# Altium footprint library PIC32MX470-F512H-120MR.PcbLib: 3 footprints
Each footprint in its own frame and in the unit in brackets; x right, y up, seen from the top. Pads: shape width x height; smd on the part's side, far side on the other; paste and mask are expansions set on the pad; w line width, h text height; cw(c..) or ccw(c..) is an arc to the next point about the centre after c.
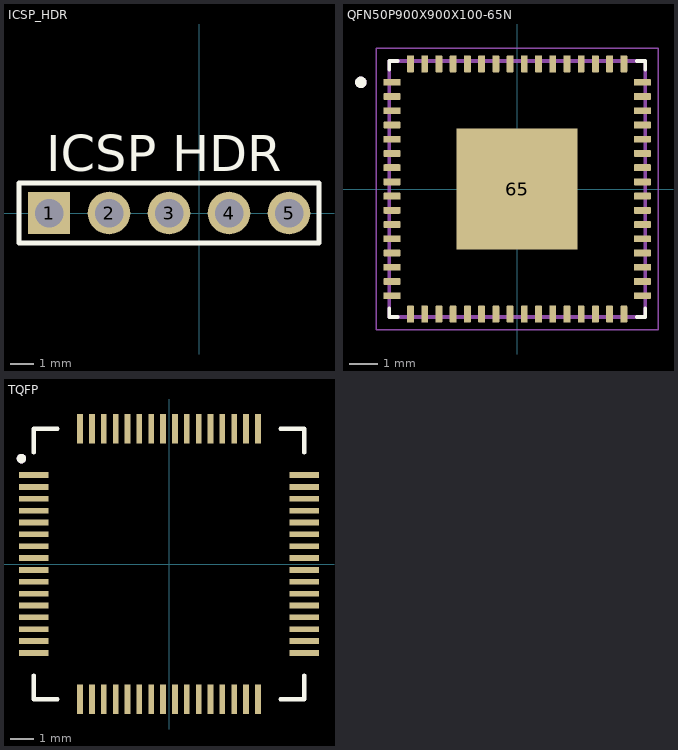
[diagram p0: the footprints below, top view; thin cyan lines are the x and y axes]

## ICSP_HDR [mil]
pads (5):
  rect 70x70 hole 47.5: 1(-250,0)
  round 71 hole 47.5: 2(-150,0) 3(-50,0) 4(50,0) 5(150,0)
Top Overlay:
  lines w8: -300,-50 200,-50 200,50 -300,50 -300,-50
  text "ICSP HDR" at -255,70 h60

## QFN50P900X900X100-65N [mm]
pads (65):
  rrect25% 0.6x0.24 smd: 1(-4.4,3.75) 2(-4.4,3.25) 3(-4.4,2.75) 4(-4.4,2.25) 5(-4.4,1.75) 6(-4.4,1.25) 7(-4.4,0.75) 8(-4.4,0.25) 9(-4.4,-0.25) 10(-4.4,-0.75) 11(-4.4,-1.25) 12(-4.4,-1.75) 13(-4.4,-2.25) 14(-4.4,-2.75) 15(-4.4,-3.25) 16(-4.4,-3.75) 33(4.4,-3.75) 34(4.4,-3.25) 35(4.4,-2.75) 36(4.4,-2.25) 37(4.4,-1.75) 38(4.4,-1.25) 39(4.4,-0.75) 40(4.4,-0.25) 41(4.4,0.25) 42(4.4,0.75) 43(4.4,1.25) 44(4.4,1.75) 45(4.4,2.25) 47(4.4,3.25) 48(4.4,3.75)
  rrect25% 0.24x0.6 smd: 17(-3.75,-4.4) 18(-3.25,-4.4) 19(-2.75,-4.4) 20(-2.25,-4.4) 21(-1.75,-4.4) 22(-1.25,-4.4) 23(-0.75,-4.4) 24(-0.25,-4.4) 25(0.25,-4.4) 26(0.75,-4.4) 27(1.25,-4.4) 28(1.75,-4.4) 29(2.25,-4.4) 30(2.75,-4.4) 31(3.25,-4.4) 32(3.75,-4.4) 49(3.75,4.4) 50(3.25,4.4) 51(2.75,4.4) 52(2.25,4.4) 53(1.75,4.4) 54(1.25,4.4) 55(0.75,4.4) 56(0.25,4.4) 57(-0.25,4.4) 58(-0.75,4.4) 59(-1.25,4.4) 60(-1.75,4.4) 61(-2.25,4.4) 62(-2.75,4.4) 63(-3.25,4.4) 64(-3.75,4.4)
  rrect25% 0.6x0.24 smd mask+0.102: 46(4.4,2.75)
  rect 4.25x4.25 smd paste-1.53: 65(0,0)
Top Overlay:
  circle w0.2: c-5.495,3.75 r0.1
  lines w0.127: -4.5,-4.2 -4.5,-4.5 -4.2,-4.5 ; -4.5,4.2 -4.5,4.5 -4.2,4.5 ; 4.2,-4.5 4.5,-4.5 4.5,-4.2 ; 4.2,4.5 4.5,4.5 4.5,4.2
Top Paste:
  region: 1.985,-1.985 0.795,-1.985 0.795,-0.795 1.985,-0.795
  region: 0.595,-1.985 -0.595,-1.985 -0.595,-0.795 0.595,-0.795
  region: -0.795,-1.985 -1.985,-1.985 -1.985,-0.795 -0.795,-0.795
  region: 1.985,0.795 0.795,0.795 0.795,1.985 1.985,1.985
  region: 0.595,0.795 -0.595,0.795 -0.595,1.985 0.595,1.985
  region: -0.795,0.795 -1.985,0.795 -1.985,1.985 -0.795,1.985
  region: 1.985,-0.595 0.795,-0.595 0.795,0.595 1.985,0.595
  region: -0.795,-0.595 -1.985,-0.595 -1.985,0.595 -0.795,0.595
Mechanical 13:
  circle w0.2: c-5.495,3.75 r0.1
  lines w0.127: -4.5,-4.5 -4.5,4.5 4.5,4.5 4.5,-4.5 -4.5,-4.5
Mechanical 15:
  lines w0.05: -4.95,-4.95 -4.95,4.95 4.95,4.95 4.95,-4.95 -4.95,-4.95
3D body "step_temp.STEP": height 1, standoff 0, extent -4.5,-4.5 4.5,4.5

## TQFP [mm]
pads (64):
  rect 1.25x0.24 smd: 1(-5.7,3.75) 2(-5.7,3.25) 3(-5.7,2.75) 4(-5.7,2.25) 5(-5.7,1.75) 6(-5.7,1.25) 7(-5.7,0.75) 8(-5.7,0.25) 9(-5.7,-0.25) 10(-5.7,-0.75) 11(-5.7,-1.25) 12(-5.7,-1.75) 13(-5.7,-2.25) 14(-5.7,-2.75) 15(-5.7,-3.25) 16(-5.7,-3.75) 33(5.7,-3.75) 34(5.7,-3.25) 35(5.7,-2.75) 36(5.7,-2.25) 37(5.7,-1.75) 38(5.7,-1.25) 39(5.7,-0.75) 40(5.7,-0.25) 41(5.7,0.25) 42(5.7,0.75) 43(5.7,1.25) 44(5.7,1.75) 45(5.7,2.25) 47(5.7,3.25) 48(5.7,3.75)
  rect 0.24x1.25 smd: 17(-3.75,-5.7) 18(-3.25,-5.7) 19(-2.75,-5.7) 20(-2.25,-5.7) 21(-1.75,-5.7) 22(-1.25,-5.7) 23(-0.75,-5.7) 24(-0.25,-5.7) 25(0.25,-5.7) 26(0.75,-5.7) 27(1.25,-5.7) 28(1.75,-5.7) 29(2.25,-5.7) 30(2.75,-5.7) 31(3.25,-5.7) 32(3.75,-5.7) 49(3.75,5.7) 50(3.25,5.7) 51(2.75,5.7) 52(2.25,5.7) 53(1.75,5.7) 54(1.25,5.7) 55(0.75,5.7) 56(0.25,5.7) 57(-0.25,5.7) 58(-0.75,5.7) 59(-1.25,5.7) 60(-1.75,5.7) 61(-2.25,5.7) 62(-2.75,5.7) 63(-3.25,5.7) 64(-3.75,5.7)
  rect 1.25x0.24 smd mask+0.102: 46(5.7,2.75)
Top Overlay:
  circle w0.2: c-6.223,4.445 r0.1
  lines w0.178: -5.7,-4.7 -5.7,-5.7 -4.7,-5.7 ; -5.7,4.7 -5.7,5.7 -4.7,5.7 ; 4.7,-5.7 5.7,-5.7 5.7,-4.7 ; 4.7,5.7 5.7,5.7 5.7,4.7
Mechanical 13:
  circle w0.2: c-6.223,4.445 r0.1